# Altium schematic symbol library SCH - LEVELTRANSLATOR - TXU0204.SchLib: 1 symbol
Pins are listed as number, name and electrical type; pins without a type are passive.

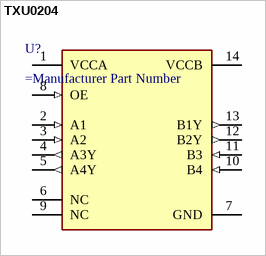
[diagram p0: symbol TXU0204]

## TXU0204
designator U?
*
pins: 1 VCCA (power), 2 A1 (in), 3 A2 (in), 4 A3Y (out), 5 A4Y (out), 6 NC, 7 GND (power), 8 OE (in), 9 NC, 10 B4 (in), 11 B3 (in), 12 B2Y (out), 13 B1Y (out), 14 VCCB (power)